# Altium integrated library Trans_Chips.IntLib: 4 symbols
Pins are listed as number, name and electrical type; pins without a type are passive.

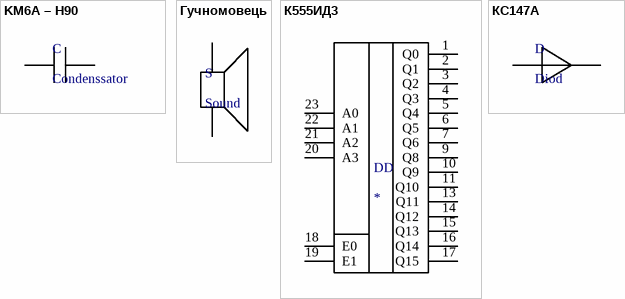
[diagram p0: symbols KM6A – H90 to КС147А]

## KM6A – H90
designator C, comment Condenssator
pins: 1, 2

## Гучномовець
designator S, comment Sound
pins: 1, 2

## К555ИД3
designator DD
pins: 1 Q0, 2 Q1, 3 Q2, 4 Q3, 5 Q4, 6 Q5, 7 Q6, 9 Q8, 10 Q9, 11 Q10, 13 Q11, 14 Q12, 15 Q13, 16 Q14, 17 Q15, 18 E0, 19 E1, 20 A3, 21 A2, 22 A1, 23 A0

## КС147А
designator D, comment Diod
pins: 1, 2